# Altium footprint library L298N.PcbLib: 1 footprints
Each footprint in its own frame and in the unit in brackets; x right, y up, seen from the top. Pads: shape width x height; smd on the part's side, far side on the other; paste and mask are expansions set on the pad; w line width, h text height; cw(c..) or ccw(c..) is an arc to the next point about the centre after c.
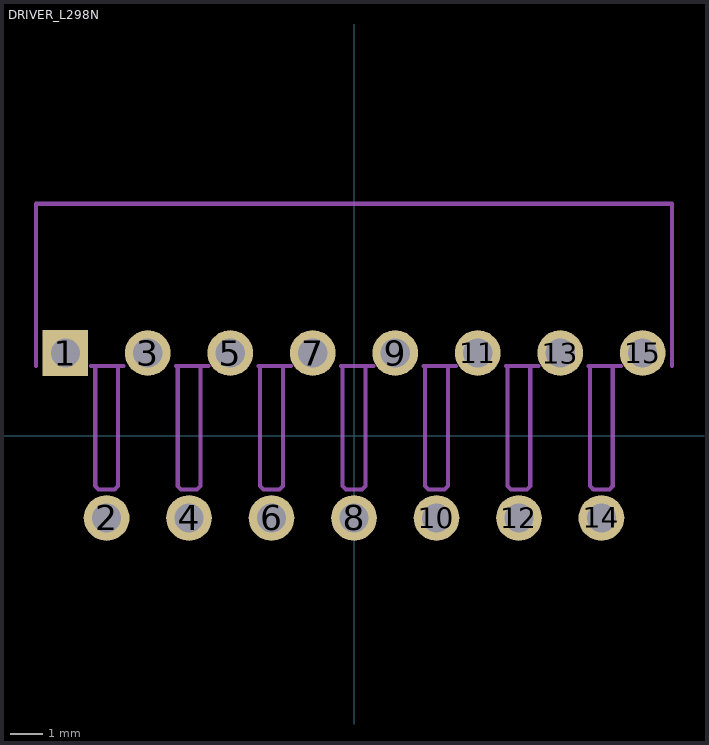
[diagram p0: the footprint, top view; thin cyan lines are the x and y axes]

## DRIVER_L298N [mm]
pads (15):
  rect 1.408x1.408 hole 0.9 mask-25.4: 1(-8.89,2.54)
  round 1.408 hole 0.9 mask-25.4: 2(-7.62,-2.54) 3(-6.35,2.54) 4(-5.08,-2.54) 5(-3.81,2.54) 6(-2.54,-2.54) 7(-1.27,2.54) 8(0,-2.54) 9(1.27,2.54) 10(2.54,-2.54) 11(3.81,2.54) 12(5.08,-2.54) 13(6.35,2.54) 14(7.62,-2.54) 15(8.89,2.54)
Top Solder:
  drawing of 15 lines, arcs and shapes, not listed
Bottom Solder:
  drawing of 15 lines, arcs and shapes, not listed
Mechanical 1:
  lines w0.127: -9.8,2.14 -9.8,7.14 9.8,7.14 9.8,2.14 ; -8.1,2.14 -7.97,2.14 ; -7.1,2.14 -7.27,2.14 ; -5.48,2.14 -4.48,2.14 ; -5.43,2.14 -5.43,-1.56 -5.33,-1.66 -4.83,-1.66 -4.73,-1.56 -4.73,2.14 ; -2.94,2.14 -1.94,2.14 ; -2.89,2.14 -2.89,-1.56 -2.79,-1.66 -2.29,-1.66 -2.19,-1.56 -2.19,2.14 ; -0.4,2.14 -0.35,2.14 ; 0.6,2.14 0.35,2.14 ; 2.14,2.14 3.14,2.14 ; 2.19,2.14 2.19,-1.56 2.29,-1.66 2.79,-1.66 2.89,-1.56 2.89,2.14 ; 4.68,2.14 5.68,2.14 ; 4.73,2.14 4.73,-1.56 4.83,-1.66 5.33,-1.66 5.43,-1.56 5.43,2.14 ; 7.22,2.14 8.22,2.14 ; 7.27,2.14 7.27,-1.56 7.37,-1.66 7.87,-1.66 7.97,-1.56 7.97,2.14 ; -7.97,2.14 -7.97,-1.56 -7.87,-1.66 -7.37,-1.66 -7.27,-1.56 -7.27,2.14 ; -7.97,2.14 -7.27,2.14 ; -0.35,2.14 -0.35,-1.56 -0.25,-1.66 0.25,-1.66 0.35,-1.56 0.35,2.14 ; -0.35,2.14 0.35,2.14